# Altium footprint library Standard-Card-Footprints.PcbLib: 17 footprints (part 2 of 2)
Each footprint in its own frame and in the unit in brackets; x right, y up, seen from the top. Pads: shape width x height; smd on the part's side, far side on the other; paste and mask are expansions set on the pad; w line width, h text height; cw(c..) or ccw(c..) is an arc to the next point about the centre after c.
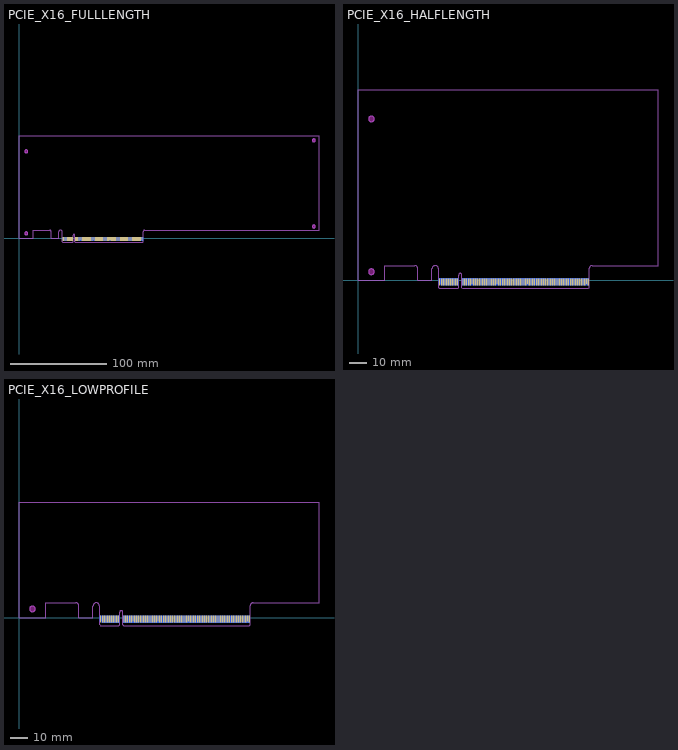
[diagram p1: the footprints below, top view; thin cyan lines are the x and y axes]

## PCIE_X16_FULLLENGTH [mm]
pads (164):
  rect 0.7x3.2 smd far side: A1(45.6,-0.5)
  rect 0.7x3.9 smd far side: A2(46.6,-0.855) A3(47.6,-0.855) A4(48.6,-0.855) A5(49.6,-0.855) A6(50.6,-0.855) A7(51.6,-0.855) A8(52.6,-0.855) A9(53.6,-0.855) A10(54.6,-0.855) A11(55.6,-0.855) A12(58.7,-0.855) A13(59.7,-0.855) A14(60.7,-0.855) A15(61.7,-0.855) A16(62.7,-0.855) A17(63.7,-0.855) A18(64.7,-0.855) A19(65.7,-0.855) A20(66.7,-0.855) A21(67.7,-0.855) A22(68.7,-0.855) A23(69.7,-0.855) A24(70.7,-0.855) A25(71.7,-0.855) A26(72.7,-0.855) A27(73.7,-0.855) A28(74.7,-0.855) A29(75.7,-0.855) A30(76.7,-0.855) A31(77.7,-0.855) A32(78.7,-0.855) A33(79.7,-0.855) A34(80.7,-0.855) A35(81.7,-0.855) A36(82.7,-0.855) A37(83.7,-0.855) A38(84.7,-0.855) A39(85.7,-0.855) A40(86.7,-0.855) A41(87.7,-0.855) A42(88.7,-0.855) A43(89.7,-0.855) A44(90.7,-0.855) A45(91.7,-0.855) A46(92.7,-0.855) A47(93.7,-0.855) A48(94.7,-0.855) A49(95.7,-0.855) A50(96.7,-0.855) A51(97.7,-0.855) A52(98.7,-0.855) A53(99.7,-0.855) A54(100.7,-0.855) A55(101.7,-0.855) A56(102.7,-0.855) A57(103.7,-0.855) A58(104.7,-0.855) A59(105.7,-0.855) A60(106.7,-0.855) A61(107.7,-0.855) A62(108.7,-0.855) A63(109.7,-0.855) A64(110.7,-0.855) A65(111.7,-0.855) A66(112.7,-0.855) A67(113.7,-0.855) A68(114.7,-0.855) A69(115.7,-0.855) A70(116.7,-0.855) A71(117.7,-0.855) A72(118.7,-0.855) A73(119.7,-0.855) A74(120.7,-0.855) A75(121.7,-0.855) A76(122.7,-0.855) A77(123.7,-0.855) A78(124.7,-0.855) A79(125.7,-0.855) A80(126.7,-0.855) A81(127.7,-0.855) A82(128.7,-0.855)
  rect 0.7x3.9 smd: B1(45.6,-0.855) B2(46.6,-0.855) B3(47.6,-0.855) B4(48.6,-0.855) B5(49.6,-0.855) B6(50.6,-0.855) B7(51.6,-0.855) B8(52.6,-0.855) B9(53.6,-0.855) B10(54.6,-0.855) B11(55.6,-0.855) B12(58.7,-0.855) B13(59.7,-0.855) B14(60.7,-0.855) B15(61.7,-0.855) B16(62.7,-0.855) B18(64.7,-0.855) B19(65.7,-0.855) B20(66.7,-0.855) B21(67.7,-0.855) B22(68.7,-0.855) B23(69.7,-0.855) B24(70.7,-0.855) B25(71.7,-0.855) B26(72.7,-0.855) B27(73.7,-0.855) B28(74.7,-0.855) B29(75.7,-0.855) B30(76.7,-0.855) B32(78.7,-0.855) B33(79.7,-0.855) B34(80.7,-0.855) B35(81.7,-0.855) B36(82.7,-0.855) B37(83.7,-0.855) B38(84.7,-0.855) B39(85.7,-0.855) B40(86.7,-0.855) B41(87.7,-0.855) B42(88.7,-0.855) B43(89.7,-0.855) B44(90.7,-0.855) B45(91.7,-0.855) B46(92.7,-0.855) B47(93.7,-0.855) B49(95.7,-0.855) B50(96.7,-0.855) B51(97.7,-0.855) B52(98.7,-0.855) B53(99.7,-0.855) B54(100.7,-0.855) B55(101.7,-0.855) B56(102.7,-0.855) B57(103.7,-0.855) B58(104.7,-0.855) B59(105.7,-0.855) B60(106.7,-0.855) B61(107.7,-0.855) B62(108.7,-0.855) B63(109.7,-0.855) B64(110.7,-0.855) B65(111.7,-0.855) B66(112.7,-0.855) B67(113.7,-0.855) B68(114.7,-0.855) B69(115.7,-0.855) B70(116.7,-0.855) B71(117.7,-0.855) B72(118.7,-0.855) B73(119.7,-0.855) B74(120.7,-0.855) B75(121.7,-0.855) B76(122.7,-0.855) B77(123.7,-0.855) B78(124.7,-0.855) B79(125.7,-0.855) B80(126.7,-0.855) B82(128.7,-0.855)
  rect 0.7x3.2 smd: B17(63.7,-0.5) B31(77.7,-0.5) B48(94.7,-0.5) B81(127.7,-0.5)
Top Solder:
  region: 45,1.2 45,-4 45.5,-4.5 55.7,-4.5 56.2,-4 56.2,1.2
  region: 58.1,1.2 58.1,-4 58.6,-4.5 128.8,-4.5 129.3,-4 129.3,1.2
Bottom Solder:
  region: 45,1.2 45,-4 45.5,-4.5 55.7,-4.5 56.2,-4 56.2,1.2
Keep-Out Layer:
  board cut-out: 305.16,12.1 305.16,11.943 305.221,11.636 305.341,11.347 305.515,11.086 305.736,10.865 305.997,10.691 306.286,10.571 306.593,10.51 306.75,10.51 306.907,10.51 307.214,10.571 307.503,10.691 307.764,10.865 307.985,11.086 308.159,11.347 308.279,11.636 308.34,11.943 308.34,12.1 308.34,12.257 308.279,12.564 308.159,12.853 307.985,13.114 307.764,13.335 307.503,13.509 307.214,13.629 306.907,13.69 306.75,13.69 306.593,13.69 306.286,13.629 305.997,13.509 305.736,13.335 305.515,13.114 305.341,12.853 305.221,12.564 305.16,12.257
  board cut-out: 305.16,101.63 305.16,101.473 305.221,101.166 305.341,100.877 305.515,100.616 305.736,100.395 305.997,100.221 306.286,100.101 306.593,100.04 306.75,100.04 306.907,100.04 307.214,100.101 307.503,100.221 307.764,100.395 307.985,100.616 308.159,100.877 308.279,101.166 308.34,101.473 308.34,101.63 308.34,101.787 308.279,102.094 308.159,102.383 307.985,102.644 307.764,102.865 307.503,103.039 307.214,103.159 306.907,103.22 306.75,103.22 306.593,103.22 306.286,103.159 305.997,103.039 305.736,102.865 305.515,102.644 305.341,102.383 305.221,102.094 305.16,101.787
  board cut-out: 5.91,4.85 5.91,4.693 5.971,4.386 6.091,4.097 6.265,3.836 6.486,3.615 6.747,3.441 7.036,3.321 7.343,3.26 7.5,3.26 7.657,3.26 7.964,3.321 8.253,3.441 8.514,3.615 8.735,3.836 8.909,4.097 9.029,4.386 9.09,4.693 9.09,4.85 9.09,5.007 9.029,5.314 8.909,5.603 8.735,5.864 8.514,6.085 8.253,6.259 7.964,6.379 7.657,6.44 7.5,6.44 7.343,6.44 7.036,6.379 6.747,6.259 6.486,6.085 6.265,5.864 6.091,5.603 5.971,5.314 5.91,5.007
  board cut-out: 7.5,88.66 7.343,88.66 7.036,88.721 6.747,88.841 6.486,89.015 6.265,89.236 6.091,89.497 5.971,89.786 5.91,90.093 5.91,90.25 5.91,90.407 5.971,90.714 6.091,91.003 6.265,91.264 6.486,91.485 6.747,91.659 7.036,91.779 7.343,91.84 7.5,91.84 7.657,91.84 7.964,91.779 8.253,91.659 8.514,91.485 8.735,91.264 8.909,91.003 9.029,90.714 9.09,90.407 9.09,90.25 9.09,90.093 9.029,89.786 8.909,89.497 8.735,89.236 8.514,89.015 8.253,88.841 7.964,88.721 7.657,88.66
Mechanical 1:
  circle w0.254: c306.75,101.63 r1.59
  circle w0.254: c7.5,90.25 r1.59
  circle w0.254: c306.75,12.1 r1.59
  circle w0.254: c7.5,4.85 r1.59
  lines w0.254: 0,0 0,106.65 312,106.65 312,8.25 130.8,8.25 ccw(c130.8,6.75) 129.3,6.75 129.3,-4 128.8,-4.5 58.6,-4.5 58.1,-4 58.1,2.95 ccw(c57.15,2.95) 56.2,2.95 56.2,-4 55.7,-4.5 45.5,-4.5 45,-4 45,6.425 ccw(c43.175,6.425) 41.35,6.425 41.35,0 33.35,0 33.35,6.75 ccw(c31.85,6.75) 31.85,8.25 15,8.25 15,0 0,0

## PCIE_X16_HALFLENGTH [mm]
pads (164):
  rect 0.7x3.2 smd far side: A1(45.6,-0.5)
  rect 0.7x3.9 smd far side: A2(46.6,-0.855) A3(47.6,-0.855) A4(48.6,-0.855) A5(49.6,-0.855) A6(50.6,-0.855) A7(51.6,-0.855) A8(52.6,-0.855) A9(53.6,-0.855) A10(54.6,-0.855) A11(55.6,-0.855) A12(58.7,-0.855) A13(59.7,-0.855) A14(60.7,-0.855) A15(61.7,-0.855) A16(62.7,-0.855) A17(63.7,-0.855) A18(64.7,-0.855) A19(65.7,-0.855) A20(66.7,-0.855) A21(67.7,-0.855) A22(68.7,-0.855) A23(69.7,-0.855) A24(70.7,-0.855) A25(71.7,-0.855) A26(72.7,-0.855) A27(73.7,-0.855) A28(74.7,-0.855) A29(75.7,-0.855) A30(76.7,-0.855) A31(77.7,-0.855) A32(78.7,-0.855) A33(79.7,-0.855) A34(80.7,-0.855) A35(81.7,-0.855) A36(82.7,-0.855) A37(83.7,-0.855) A38(84.7,-0.855) A39(85.7,-0.855) A40(86.7,-0.855) A41(87.7,-0.855) A42(88.7,-0.855) A43(89.7,-0.855) A44(90.7,-0.855) A45(91.7,-0.855) A46(92.7,-0.855) A47(93.7,-0.855) A48(94.7,-0.855) A49(95.7,-0.855) A50(96.7,-0.855) A51(97.7,-0.855) A52(98.7,-0.855) A53(99.7,-0.855) A54(100.7,-0.855) A55(101.7,-0.855) A56(102.7,-0.855) A57(103.7,-0.855) A58(104.7,-0.855) A59(105.7,-0.855) A60(106.7,-0.855) A61(107.7,-0.855) A62(108.7,-0.855) A63(109.7,-0.855) A64(110.7,-0.855) A65(111.7,-0.855) A66(112.7,-0.855) A67(113.7,-0.855) A68(114.7,-0.855) A69(115.7,-0.855) A70(116.7,-0.855) A71(117.7,-0.855) A72(118.7,-0.855) A73(119.7,-0.855) A74(120.7,-0.855) A75(121.7,-0.855) A76(122.7,-0.855) A77(123.7,-0.855) A78(124.7,-0.855) A79(125.7,-0.855) A80(126.7,-0.855) A81(127.7,-0.855) A82(128.7,-0.855)
  rect 0.7x3.9 smd: B1(45.6,-0.855) B2(46.6,-0.855) B3(47.6,-0.855) B4(48.6,-0.855) B5(49.6,-0.855) B6(50.6,-0.855) B7(51.6,-0.855) B8(52.6,-0.855) B9(53.6,-0.855) B10(54.6,-0.855) B11(55.6,-0.855) B12(58.7,-0.855) B13(59.7,-0.855) B14(60.7,-0.855) B15(61.7,-0.855) B16(62.7,-0.855) B18(64.7,-0.855) B19(65.7,-0.855) B20(66.7,-0.855) B21(67.7,-0.855) B22(68.7,-0.855) B23(69.7,-0.855) B24(70.7,-0.855) B25(71.7,-0.855) B26(72.7,-0.855) B27(73.7,-0.855) B28(74.7,-0.855) B29(75.7,-0.855) B30(76.7,-0.855) B32(78.7,-0.855) B33(79.7,-0.855) B34(80.7,-0.855) B35(81.7,-0.855) B36(82.7,-0.855) B37(83.7,-0.855) B38(84.7,-0.855) B39(85.7,-0.855) B40(86.7,-0.855) B41(87.7,-0.855) B42(88.7,-0.855) B43(89.7,-0.855) B44(90.7,-0.855) B45(91.7,-0.855) B46(92.7,-0.855) B47(93.7,-0.855) B49(95.7,-0.855) B50(96.7,-0.855) B51(97.7,-0.855) B52(98.7,-0.855) B53(99.7,-0.855) B54(100.7,-0.855) B55(101.7,-0.855) B56(102.7,-0.855) B57(103.7,-0.855) B58(104.7,-0.855) B59(105.7,-0.855) B60(106.7,-0.855) B61(107.7,-0.855) B62(108.7,-0.855) B63(109.7,-0.855) B64(110.7,-0.855) B65(111.7,-0.855) B66(112.7,-0.855) B67(113.7,-0.855) B68(114.7,-0.855) B69(115.7,-0.855) B70(116.7,-0.855) B71(117.7,-0.855) B72(118.7,-0.855) B73(119.7,-0.855) B74(120.7,-0.855) B75(121.7,-0.855) B76(122.7,-0.855) B77(123.7,-0.855) B78(124.7,-0.855) B79(125.7,-0.855) B80(126.7,-0.855) B82(128.7,-0.855)
  rect 0.7x3.2 smd: B17(63.7,-0.5) B31(77.7,-0.5) B48(94.7,-0.5) B81(127.7,-0.5)
Top Solder:
  region: 45,1.2 45,-4 45.5,-4.5 55.7,-4.5 56.2,-4 56.2,1.2
  region: 58.1,1.2 58.1,-4 58.6,-4.5 128.8,-4.5 129.3,-4 129.3,1.2
Bottom Solder:
  region: 45,1.2 45,-4 45.5,-4.5 55.7,-4.5 56.2,-4 56.2,1.2
Keep-Out Layer:
  board cut-out: 5.91,90.25 5.91,90.407 5.971,90.714 6.091,91.003 6.265,91.264 6.486,91.485 6.747,91.659 7.036,91.779 7.343,91.84 7.5,91.84 7.657,91.84 7.964,91.779 8.253,91.659 8.514,91.485 8.735,91.264 8.909,91.003 9.029,90.714 9.09,90.407 9.09,90.25 9.09,90.093 9.029,89.786 8.909,89.497 8.735,89.236 8.514,89.015 8.253,88.841 7.964,88.721 7.657,88.66 7.5,88.66 7.343,88.66 7.036,88.721 6.747,88.841 6.486,89.015 6.265,89.236 6.091,89.497 5.971,89.786 5.91,90.093
  board cut-out: 5.91,4.85 5.91,5.007 5.971,5.314 6.091,5.603 6.265,5.864 6.486,6.085 6.747,6.259 7.036,6.379 7.343,6.44 7.5,6.44 7.657,6.44 7.964,6.379 8.253,6.259 8.514,6.085 8.735,5.864 8.909,5.603 9.029,5.314 9.09,5.007 9.09,4.85 9.09,4.693 9.029,4.386 8.909,4.097 8.735,3.836 8.514,3.615 8.253,3.441 7.964,3.321 7.657,3.26 7.5,3.26 7.343,3.26 7.036,3.321 6.747,3.441 6.486,3.615 6.265,3.836 6.091,4.097 5.971,4.386 5.91,4.693
Mechanical 1:
  circle w0.254: c7.5,4.85 r1.59
  circle w0.254: c7.5,90.25 r1.59
  lines w0.254: 0,0 15,0 15,8.25 31.85,8.25 cw(c31.85,6.75) 33.35,6.75 33.35,0 41.35,0 41.35,6.425 cw(c43.175,6.425) 45,6.425 45,-4 45.5,-4.5 55.7,-4.5 56.2,-4 56.2,2.95 cw(c57.15,2.95) 58.1,2.95 58.1,-4 58.6,-4.5 128.8,-4.5 129.3,-4 129.3,6.75 cw(c130.8,6.75) 130.8,8.25 167.65,8.25 167.65,106.65 0,106.65 0,0

## PCIE_X16_LOWPROFILE [mm]
pads (164):
  rect 0.7x3.2 smd far side: A1(45.6,-0.5)
  rect 0.7x3.9 smd far side: A2(46.6,-0.855) A3(47.6,-0.855) A4(48.6,-0.855) A5(49.6,-0.855) A6(50.6,-0.855) A7(51.6,-0.855) A8(52.6,-0.855) A9(53.6,-0.855) A10(54.6,-0.855) A11(55.6,-0.855) A12(58.7,-0.855) A13(59.7,-0.855) A14(60.7,-0.855) A15(61.7,-0.855) A16(62.7,-0.855) A17(63.7,-0.855) A18(64.7,-0.855) A19(65.7,-0.855) A20(66.7,-0.855) A21(67.7,-0.855) A22(68.7,-0.855) A23(69.7,-0.855) A24(70.7,-0.855) A25(71.7,-0.855) A26(72.7,-0.855) A27(73.7,-0.855) A28(74.7,-0.855) A29(75.7,-0.855) A30(76.7,-0.855) A31(77.7,-0.855) A32(78.7,-0.855) A33(79.7,-0.855) A34(80.7,-0.855) A35(81.7,-0.855) A36(82.7,-0.855) A37(83.7,-0.855) A38(84.7,-0.855) A39(85.7,-0.855) A40(86.7,-0.855) A41(87.7,-0.855) A42(88.7,-0.855) A43(89.7,-0.855) A44(90.7,-0.855) A45(91.7,-0.855) A46(92.7,-0.855) A47(93.7,-0.855) A48(94.7,-0.855) A49(95.7,-0.855) A50(96.7,-0.855) A51(97.7,-0.855) A52(98.7,-0.855) A53(99.7,-0.855) A54(100.7,-0.855) A55(101.7,-0.855) A56(102.7,-0.855) A57(103.7,-0.855) A58(104.7,-0.855) A59(105.7,-0.855) A60(106.7,-0.855) A61(107.7,-0.855) A62(108.7,-0.855) A63(109.7,-0.855) A64(110.7,-0.855) A65(111.7,-0.855) A66(112.7,-0.855) A67(113.7,-0.855) A68(114.7,-0.855) A69(115.7,-0.855) A70(116.7,-0.855) A71(117.7,-0.855) A72(118.7,-0.855) A73(119.7,-0.855) A74(120.7,-0.855) A75(121.7,-0.855) A76(122.7,-0.855) A77(123.7,-0.855) A78(124.7,-0.855) A79(125.7,-0.855) A80(126.7,-0.855) A81(127.7,-0.855) A82(128.7,-0.855)
  rect 0.7x3.9 smd: B1(45.6,-0.855) B2(46.6,-0.855) B3(47.6,-0.855) B4(48.6,-0.855) B5(49.6,-0.855) B6(50.6,-0.855) B7(51.6,-0.855) B8(52.6,-0.855) B9(53.6,-0.855) B10(54.6,-0.855) B11(55.6,-0.855) B12(58.7,-0.855) B13(59.7,-0.855) B14(60.7,-0.855) B15(61.7,-0.855) B16(62.7,-0.855) B18(64.7,-0.855) B19(65.7,-0.855) B20(66.7,-0.855) B21(67.7,-0.855) B22(68.7,-0.855) B23(69.7,-0.855) B24(70.7,-0.855) B25(71.7,-0.855) B26(72.7,-0.855) B27(73.7,-0.855) B28(74.7,-0.855) B29(75.7,-0.855) B30(76.7,-0.855) B32(78.7,-0.855) B33(79.7,-0.855) B34(80.7,-0.855) B35(81.7,-0.855) B36(82.7,-0.855) B37(83.7,-0.855) B38(84.7,-0.855) B39(85.7,-0.855) B40(86.7,-0.855) B41(87.7,-0.855) B42(88.7,-0.855) B43(89.7,-0.855) B44(90.7,-0.855) B45(91.7,-0.855) B46(92.7,-0.855) B47(93.7,-0.855) B49(95.7,-0.855) B50(96.7,-0.855) B51(97.7,-0.855) B52(98.7,-0.855) B53(99.7,-0.855) B54(100.7,-0.855) B55(101.7,-0.855) B56(102.7,-0.855) B57(103.7,-0.855) B58(104.7,-0.855) B59(105.7,-0.855) B60(106.7,-0.855) B61(107.7,-0.855) B62(108.7,-0.855) B63(109.7,-0.855) B64(110.7,-0.855) B65(111.7,-0.855) B66(112.7,-0.855) B67(113.7,-0.855) B68(114.7,-0.855) B69(115.7,-0.855) B70(116.7,-0.855) B71(117.7,-0.855) B72(118.7,-0.855) B73(119.7,-0.855) B74(120.7,-0.855) B75(121.7,-0.855) B76(122.7,-0.855) B77(123.7,-0.855) B78(124.7,-0.855) B79(125.7,-0.855) B80(126.7,-0.855) B82(128.7,-0.855)
  rect 0.7x3.2 smd: B17(63.7,-0.5) B31(77.7,-0.5) B48(94.7,-0.5) B81(127.7,-0.5)
Top Solder:
  region: 45,1.2 45,-4 45.5,-4.5 55.7,-4.5 56.2,-4 56.2,1.2
  region: 58.1,1.2 58.1,-4 58.6,-4.5 128.8,-4.5 129.3,-4 129.3,1.2
Bottom Solder:
  region: 45,1.2 45,-4 45.5,-4.5 55.7,-4.5 56.2,-4 56.2,1.2
Keep-Out Layer:
  board cut-out: 5.91,4.85 5.91,4.693 5.971,4.386 6.091,4.097 6.265,3.836 6.486,3.615 6.747,3.441 7.036,3.321 7.343,3.26 7.5,3.26 7.657,3.26 7.964,3.321 8.253,3.441 8.514,3.615 8.735,3.836 8.909,4.097 9.029,4.386 9.09,4.693 9.09,4.85 9.09,5.007 9.029,5.314 8.909,5.603 8.735,5.864 8.514,6.085 8.253,6.259 7.964,6.379 7.657,6.44 7.5,6.44 7.343,6.44 7.036,6.379 6.747,6.259 6.486,6.085 6.265,5.864 6.091,5.603 5.971,5.314 5.91,5.007
Mechanical 1:
  circle w0.254: c7.5,4.85 r1.59
  lines w0.254: 0,0 15,0 15,8.25 31.85,8.25 cw(c31.85,6.75) 33.35,6.75 33.35,0 41.35,0 41.35,6.425 cw(c43.175,6.425) 45,6.425 45,-4 45.5,-4.5 55.7,-4.5 56.2,-4 56.2,2.95 cw(c57.15,2.95) 58.1,2.95 58.1,-4 58.6,-4.5 128.8,-4.5 129.3,-4 129.3,6.75 cw(c130.8,6.75) 130.8,8.25 167.65,8.25 167.65,64.4 0,64.4 0,0